# Altium footprint library Mylib.PcbLib: 4 footprints
Each footprint in its own frame and in the unit in brackets; x right, y up, seen from the top. Pads: shape width x height; smd on the part's side, far side on the other; paste and mask are expansions set on the pad; w line width, h text height; cw(c..) or ccw(c..) is an arc to the next point about the centre after c.
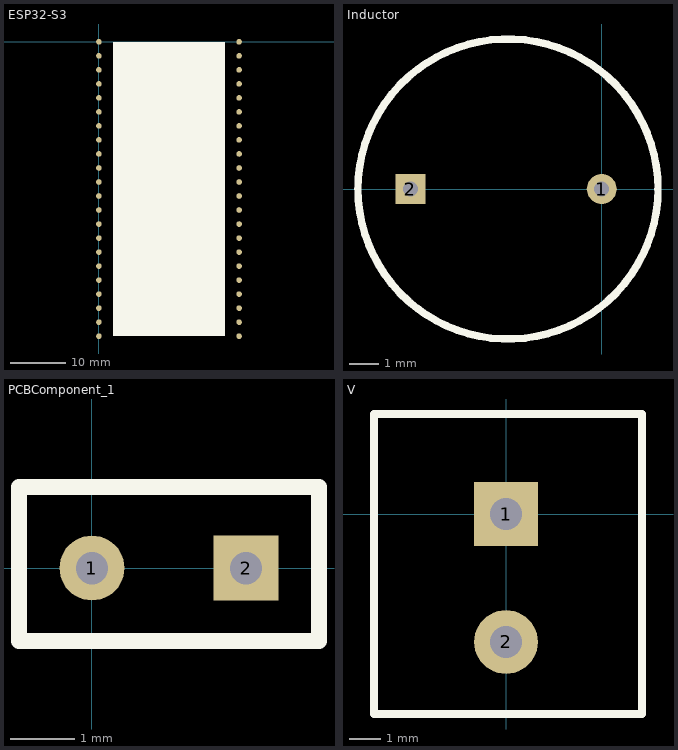
[diagram p0: the footprints below, top view; thin cyan lines are the x and y axes]

## ESP32-S3 [mil]
pads (44):
  round 40 all layers, no hole paste-99999: 1(0,0) 2(0,-100) 3(0,-200) 4(0,-300) 5(0,-400) 6(0,-500) 7(0,-600) 8(0,-700) 9(0,-800) 10(0,-900) 11(0,-1000) 12(0,-1100) 13(0,-1200) 14(0,-1300) 15(0,-1400) 16(0,-1500) 17(0,-1600) 18(0,-1700) 19(0,-1800) 20(0,-1900) 21(0,-2000) 22(0,-2100) 23(1000,-2100) 24(1000,-2000) 25(1000,-1900) 26(1000,-1800) 27(1000,-1700) 28(1000,-1600) 29(1000,-1500) 30(1000,-1400) 31(1000,-1300) 32(1000,-1200) 33(1000,-1100) 34(1000,-1000) 35(1000,-900) 36(1000,-800) 37(1000,-700) 38(1000,-600) 39(1000,-500) 40(1000,-400) 41(1000,-300) 42(1000,-200) 43(1000,-100) 44(1000,0)
Top Overlay:
  rectangle: 100,-2100 900,0

## Inductor [mil]
pads (2):
  round 40 hole 20: 1(0,0)
  rect 40x40 hole 20: 2(-255,0)
Top Overlay:
  circle w10: c-125,0 r200

## PCBComponent_1 [mil]
pads (2):
  round 40 hole 20: 1(0,0)
  rect 40x40 hole 20 square: 2(95,0)
Top Overlay:
  lines w10: -45,-45 -45,50 140,50 140,-45 -45,-45

## V [mil]
pads (2):
  rect 80x80 hole 40 square: 1(0,0)
  round 80 hole 40: 2(0,-160)
Top Overlay:
  lines w10: -165,-250 170,-250 170,125 -165,125 -165,-250